# EAGLE library part LM3S101 (library luminary-arm)
MICROCONTROLLER
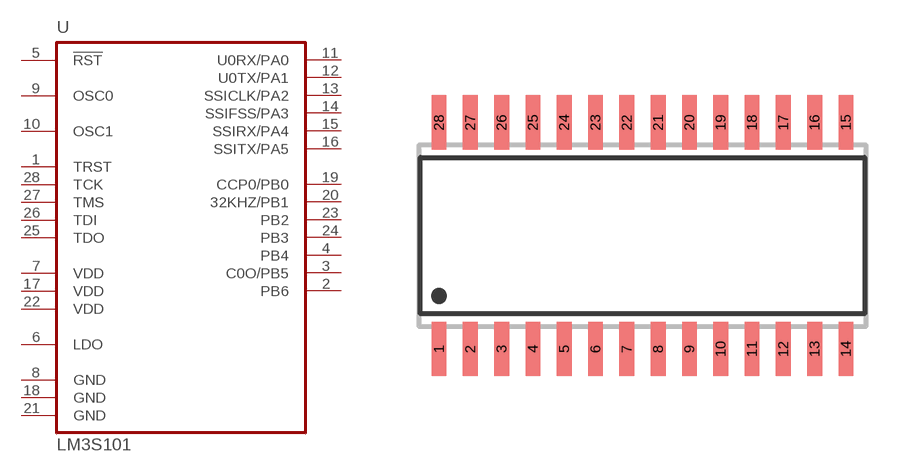
[diagram p15: symbol with the pads of SO28W; footprint SO28W]

Designator prefix U

## LM3S101  [SO28W]
1  TRST  in
2  PB6
3  C0O/PB5
4  PB4
5  !RST!  in
6  LDO  pas
7  VDD  pwr
8  GND  pwr
9  OSC0  pas
10  OSC1  pas
11  U0RX/PA0
12  U0TX/PA1
13  SSICLK/PA2
14  SSIFSS/PA3
15  SSIRX/PA4
16  SSITX/PA5
17  VDD  pwr
18  GND  pwr
19  CCP0/PB0
20  32KHZ/PB1
21  GND  pwr
22  VDD  pwr
23  PB2
24  PB3
25  TDO  out
26  TDI  in
27  TMS  in
28  TCK  in

## Footprint SO28W (pad centres in mm)
SMALL OUTLINE INTEGRATED CIRCUIT wide body 7.5 mm/JEDEC MO-119AB
smd 0.6 x 2.2: 1 -8.255,-4.6; 2 -6.985,-4.6; 3 -5.715,-4.6; 4 -4.445,-4.6; 5 -3.175,-4.6; 6 -1.905,-4.6; 7 -0.635,-4.6; 8 0.635,-4.6; 9 1.905,-4.6; 10 3.175,-4.6; 11 4.445,-4.6; 12 5.715,-4.6; 13 6.985,-4.6; 14 8.255,-4.6; 15 8.255,4.6; 16 6.985,4.6; 17 5.715,4.6; 18 4.445,4.6; 19 3.175,4.6; 20 1.905,4.6; 21 0.635,4.6; 22 -0.635,4.6; 23 -1.905,4.6; 24 -3.175,4.6; 25 -4.445,4.6; 26 -5.715,4.6; 27 -6.985,4.6; 28 -8.255,4.6